# Altium schematic symbol library LDO_FIXED.SchLib: 1 symbol
Pins are listed as number, name and electrical type; pins without a type are passive.

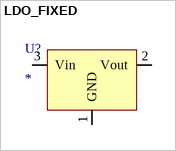
[diagram p0: symbol LDO_FIXED]

## LDO_FIXED
designator U?
Value: *
pins: 1 GND, 2 Vout, 3 Vin